# EAGLE library part ETHERNET-ENC28J60_PER (library personal_diy-modules)
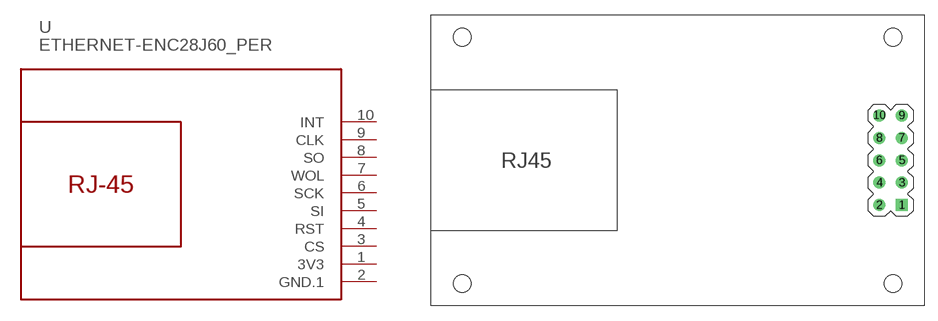
[diagram p67: symbol with the pads of ETHERNET-ENC28J60_PER; footprint ETHERNET-ENC28J60_PER]

Designator prefix -

## ETHERNET-ENC28J60_PER  [ETHERNET-ENC28J60_PER]
1  3V3  pwr
2  GND.1  pwr
3  CS
4  RST
5  SI
6  SCK
7  WOL
8  SO
9  CLK
10  INT

## Footprint ETHERNET-ENC28J60_PER (pad centres in mm)
Ethernet Module based on ENC28J60 chip
drill 0.85 square: 1 22.86,-5.08
drill 0.85: 2 20.32,-5.08; 3 22.86,-2.54; 4 20.32,-2.54; 5 22.86,0; 6 20.32,0; 7 22.86,2.54; 8 20.32,2.54; 9 22.86,5.08; 10 20.32,5.08
hole 2 at -26.924,13.97
hole 2 at 21.844,13.97
hole 2 at -26.924,-13.97
hole 2 at 21.844,-13.97